# Altium integrated library Module_MAX98357A.IntLib: 1 symbol
Pins are listed as number, name and electrical type; pins without a type are passive.

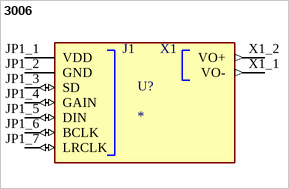
[diagram p0: symbol 3006]

## 3006
designator U?
MAX98357A - 1-Channel (Mono) Output Class D Audio Amplifier Evaluation Board; MF: Adafruit; MP: 3006; SnapEDA_Link: https://www.snapeda.com/parts/3006/Adafruit+Industries/view-part/?ref=snap; Package: Package; Value: *; Check_prices: https://www.snapeda.com/parts/3006/Adafruit+Industries/view-part/?ref=eda
footprint MODULE_3006
pins: JP1_1 VDD (power), JP1_2 GND (power), JP1_3 SD (io), JP1_4 GAIN (io), JP1_5 DIN (io), JP1_6 BCLK (io), JP1_7 LRCLK (io), X1_1 VO- (out), X1_2 VO+ (out)
text: J1; X1